# Altium footprint library esp32.PcbLib: 52 footprints (part 1 of 4)
Each footprint in its own frame and in the unit in brackets; x right, y up, seen from the top. Pads: shape width x height; smd on the part's side, far side on the other; paste and mask are expansions set on the pad; w line width, h text height; cw(c..) or ccw(c..) is an arc to the next point about the centre after c.
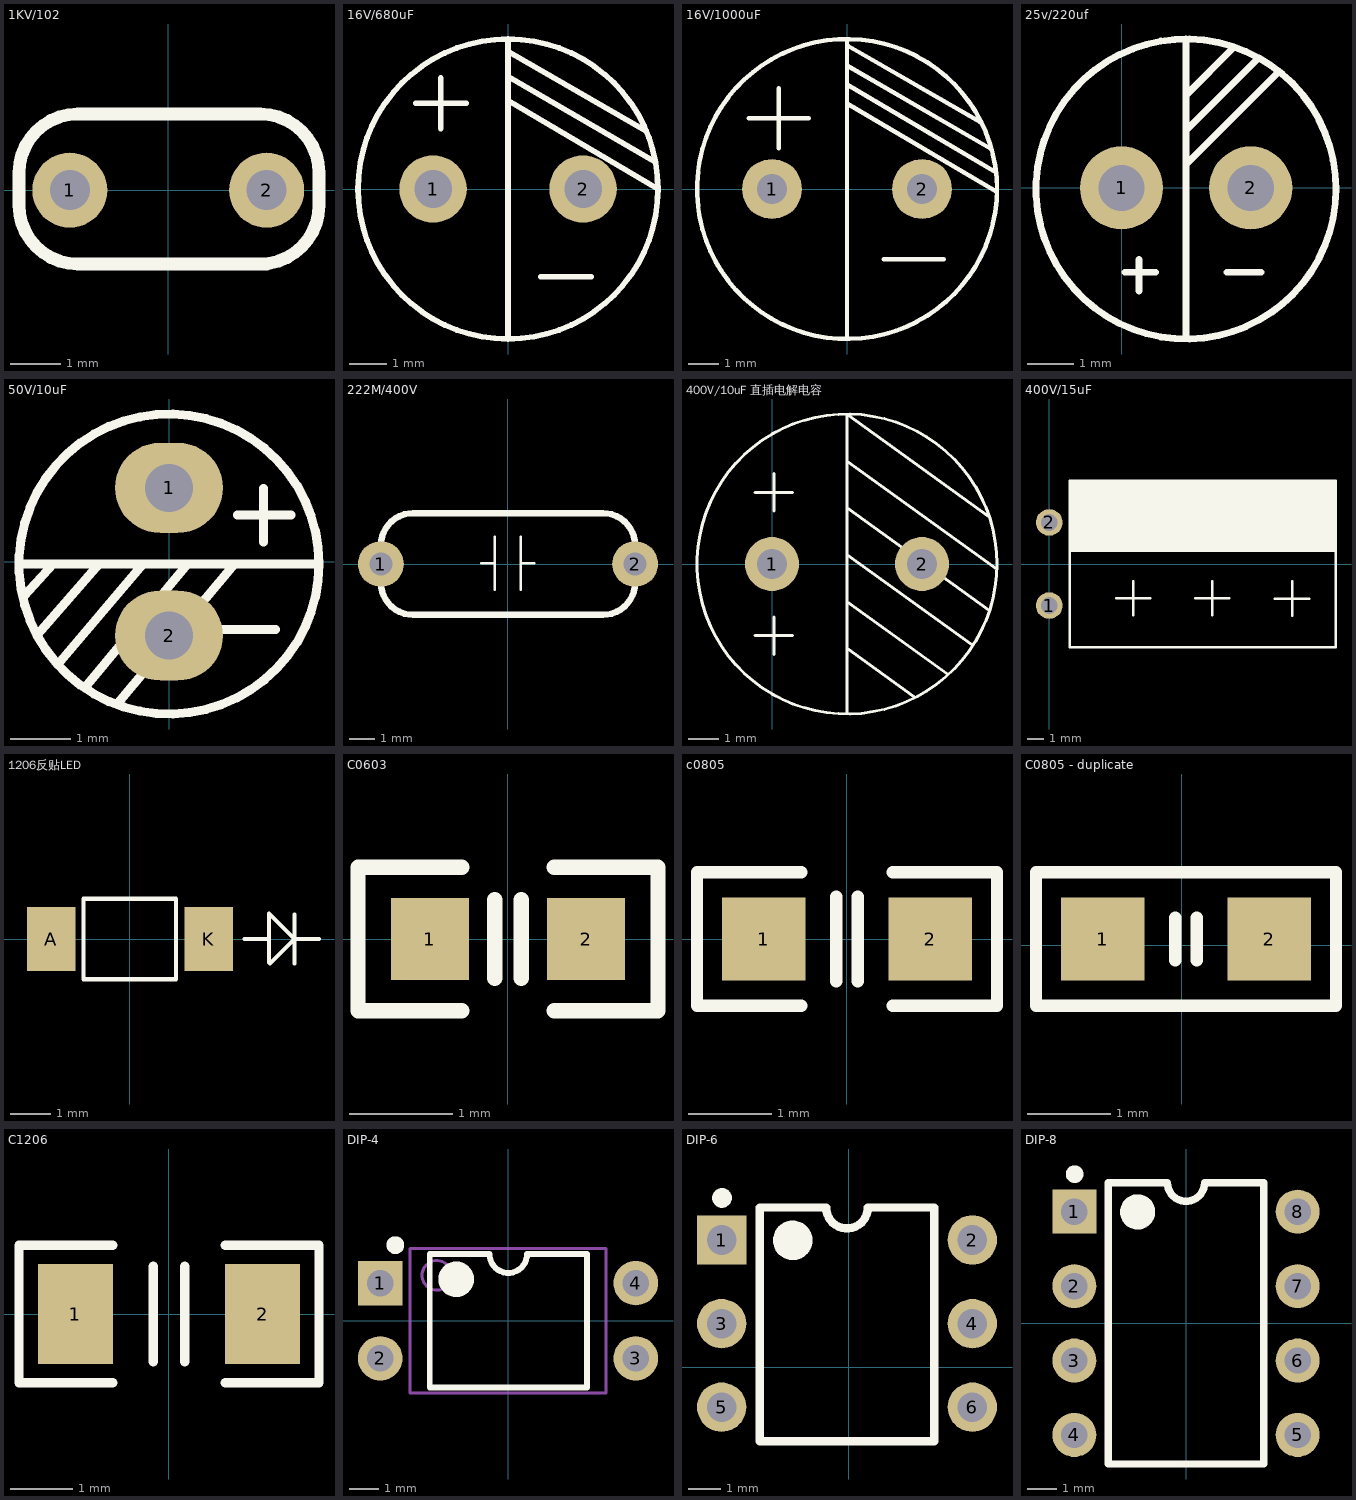
[diagram p0: the footprints below, top view; thin cyan lines are the x and y axes]

## 1KV/102 [mm]
pads (2):
  round 1.5 hole 0.8: 1(-1.968,0) 2(1.968,0)
Top Overlay:
  lines w0.254: 1.841,-1.476 ccw(c1.841,-0.302) 3.016,-0.302 3.016,0.35 ccw(c1.841,0.35) 1.841,1.524 -1.81,1.524 ccw(c-1.81,0.35) -2.984,0.35 -2.984,-0.302 ccw(c-1.81,-0.302) -1.81,-1.476 1.968,-1.476

## 16V/680uF [mm]
pads (2):
  round 1.8 hole 1: 1(-2,0) 2(2,0)
Top Overlay:
  circle w0.15: c0,0 r4
  lines w0.15: -2.464,2.286 -1.118,2.286 ; -1.791,1.613 -1.791,2.959 ; 0,-3.988 0,0 0,3.988 ; 0,2.362 4,0 ; 0,2.997 3.912,0.737 ; 0.025,3.658 3.683,1.549 ; 0.876,-2.337 2.222,-2.337

## 16V/1000uF [mm]
pads (2):
  round 2 hole 1: 1(-2.5,0) 2(2.5,0)
Top Overlay:
  circle w0.15: c0,0 r5
  lines w0.15: -3.277,2.362 -1.27,2.362 ; -2.273,1.359 -2.273,3.365 ; 0,-4.928 0,0 0,4.978 ; 0,2.845 4.97,-0.09 ; 0,3.48 4.97,0.545 ; 0,4.115 4.798,1.342 ; 0.025,4.775 4.442,2.23 ; 2.222,-2.337 1.219,-2.337 3.226,-2.337

## 25v/220uf [mm]
pads (2):
  round 1.8 hole 1: 1(0,0) 2(2.8,0)
Top Overlay:
  circle w0.15: c1.397,-0.025 r3.25
  lines w0.15: 0.076,-1.829 0.737,-1.829 ; 0.381,-2.235 0.381,-1.549 ; 1.397,-3.251 1.397,-0.025 1.397,3.226 ; 1.397,0.406 1.397,0.508 3.404,2.515 ; 1.397,1.067 1.397,1.245 2.946,2.794 ; 1.397,1.829 1.397,1.905 1.397,2.007 2.438,3.048 ; 2.286,-1.829 3.023,-1.829

## 50V/10uF [mm]
pads (2):
  oval 1.8x1.5 hole 0.8: 1(0,1.232) 2(0,-1.232)
Top Overlay:
  circle w0.15: c0,-0.038 r2.5
  lines w0.15: -2.464,-0.038 2.5,-0.038 ; -2.415,-0.569 -1.93,-0.038 ; -2.184,-1.206 -1.168,-0.038 ; -1.854,-1.714 -0.432,-0.038 ; -1.397,-2.095 0.305,-0.038 ; -0.853,-2.358 1.092,-0.038 ; 0.889,-1.13 1.778,-1.13 ; 1.143,0.775 2.032,0.775 ; 1.575,0.33 1.575,1.219

## 222M/400V [mm]
pads (2):
  round 1.8 hole 0.9: 1(-5,0) 2(5,0)
Top Overlay:
  lines w0.1: -1.047,0.032 -0.514,0.032 ; -0.514,-1.009 -0.514,1.073 ; 0.502,-1.009 0.502,1.073 ; 0.502,0.032 1.036,0.032
  lines w0.254: -5,-0.73 ccw(c-3.73,-0.73) -3.73,-2 3.73,-2 ccw(c3.73,-0.73) 5,-0.73 ; -5,0 -5,0.73 cw(c-3.73,0.73) -3.73,2 3.73,2 cw(c3.73,0.73) 5,0.73

## 400V/10uF 直插电解电容 [mm]
pads (2):
  round 1.8 hole 1: 1(0,0) 2(5,0)
Top Overlay:
  circle w0.1: c2.5,0 r5
  lines w0.1: -0.559,-2.388 0.686,-2.388 ; -0.559,2.388 0.686,2.388 ; 0.064,-3.01 0.064,-1.765 ; 0.064,1.765 0.064,3.01 ; 2.5,-4.989 2.5,0 2.5,4.989 7.239,1.575 ; 2.5,-2.812 4.736,-4.423 ; 2.5,-1.252 5.858,-3.671 ; 2.5,0.309 6.668,-2.694 ; 2.5,1.869 7.239,-1.546 ; 2.5,3.429 7.493,-0.168

## 400V/15uF [mm]
pads (2):
  round 1.6 hole 1: 1(0,-2.5) 2(0,2.5)
Top Overlay:
  rectangle: 1.245,0.715 17.247,5
  lines w0.15: 4.013,-2.054 6.071,-2.054 ; 5.042,-3.082 5.042,-1.025 ; 8.776,-2.054 10.833,-2.054 ; 9.804,-3.082 9.804,-1.025 ; 13.576,-2.079 15.634,-2.079 ; 14.605,-3.108 14.605,-1.05 ; 1.245,-5 17.245,-5 17.245,5 1.245,5 1.245,-5

## 1206反贴LED [mm]
pads (2):
  rect 1.2x1.6 smd: A(-1.956,0) K(1.956,0)
Top Overlay:
  lines w0.1: 2.845,0 3.454,0 ; 4.089,-0.61 4.089,0 ; 4.089,0.61 4.089,0 ; 4.699,0 4.089,0 ; 4.089,0 3.454,0.635 3.454,-0.584 3.48,-0.61 4.089,0 ; -1.15,-1 1.15,-1 1.15,0 1.15,1 -1.15,1 -1.15,0 -1.15,-1

## C0603 [mm]
pads (2):
  rect 0.76x0.8 smd: 1(-0.76,0) 2(0.76,0)
Top Overlay:
  lines w0.15: -0.45,-0.7 -1.46,-0.7 -1.46,0.7 -0.45,0.7 ; -0.127,-0.381 -0.127,0.381 ; 0.127,-0.381 0.127,0.381 ; 0.45,-0.7 1.46,-0.7 1.46,0.7 0.45,0.7

## c0805 [mm]
pads (2):
  rect 1x1 smd: 1(-1,0) 2(1,0)
Top Overlay:
  lines w0.15: -0.55,-0.8 -1.8,-0.8 -1.8,0.8 -0.55,0.8 ; -0.127,-0.508 -0.127,0.508 ; 0.127,-0.508 0.127,0.508 ; 0.55,-0.8 1.8,-0.8 1.8,0.8 0.55,0.8

## C0805 - duplicate [mm]
pads (2):
  rect 1x1 smd: 1(-0.949,0.076) 2(1.051,0.076)
Top Overlay:
  lines w0.15: -0.076,-0.178 -0.076,0.33 ; 0.178,-0.178 0.178,0.33 ; -1.749,-0.724 -1.749,0.876 1.851,0.876 1.851,-0.724 -1.749,-0.724

## C1206 [mm]
pads (2):
  rect 1.2x1.6 smd: 1(-1.5,0) 2(1.5,0)
Top Overlay:
  lines w0.15: -0.9,-1.1 -2.4,-1.1 -2.4,1.1 -0.9,1.1 ; -0.254,-0.762 -0.254,0.762 ; 0.254,-0.762 0.254,0.762 ; 0.9,-1.1 2.4,-1.1 2.4,1.1 0.9,1.1

## DIP-4 [mm]
pads (4):
  rect 1.5x1.5 hole 0.9: 1(-4.31,1.27)
  round 1.5 hole 0.9: 2(-4.31,-1.27) 3(4.31,-1.27) 4(4.31,1.27)
Top Overlay:
  circle w0.3: c-3.8,2.55 r0.15
  circle w0.6: c-1.75,1.4 r0.3
  lines w0.2: -2.64,-2.25 2.66,-2.25 2.66,2.25 0.645,2.25 cw(c0.01,2.25) -0.625,2.25 -2.64,2.25 -2.64,-2.25
Mechanical 13:
  circle w0.1: c-2.4,1.53 r0.5
  lines w0.1: -3.3,-2.43 -3.3,2.43 3.3,2.43 3.3,-2.43 ; -3.29,-2.43 3.31,-2.43

## DIP-6 [mm]
pads (6):
  rect 1.5x1.5 hole 0.9: 1(-3.861,3.861)
  round 1.5 hole 0.9: 2(3.759,3.861) 3(-3.861,1.321) 4(3.759,1.321) 5(-3.861,-1.219) 6(3.759,-1.219)
Top Overlay:
  circle w0.6: c-1.701,3.851 r0.3
  circle w0.3: c-3.851,5.141 r0.15
  lines w0.254: -2.701,-2.261 2.599,-2.261 2.599,4.851 0.584,4.851 cw(c-0.051,4.851) -0.686,4.851 -2.701,4.851 -2.701,-2.261

## DIP-8 [mm]
pads (8):
  rect 1.5x1.5 hole 0.9: 1(-3.81,3.81)
  round 1.5 hole 0.9: 2(-3.81,1.27) 3(-3.81,-1.27) 4(-3.81,-3.81) 5(3.81,-3.81) 6(3.81,-1.27) 7(3.81,1.27) 8(3.81,3.81)
Top Overlay:
  circle w0.3: c-3.8,5.09 r0.15
  circle w0.6: c-1.65,3.8 r0.3
  lines w0.254: -2.65,-4.8 -2.65,4.8 -0.635,4.8 ccw(c0,4.8) 0.635,4.8 2.65,4.8 2.65,-4.8 -2.65,-4.8
3D body "SW3dPS-DIP08-300.STEP": height 5.08, standoff -2.49, extent -3.935,-5.46 3.935,5.46